# EAGLE library part PCM5102A (library texas-instruments)
2VRMS DirectPath™, 112dB Audio Stereo DAC with 32-bit, 384kHz PCM Interface The PCM510xA devices are a family of monolithic CMOS integrated circuits that include a stereo digital-to-analog converter and additional support circuitry in a small TSSOP package. The PCM510xA uses the latest generation of TI’s advanced segment-DAC architecture to achieve excellent dynamic performance and improved tolerance to clock jitter. The PCM510xA provides 2.1VRMS ground centered outputs, allowing designers to eliminate DC blocking capacitors on the output, as well as external muting circuits traditionally associated with single supply line drivers. The integrated line driver surpasses all other charge-pump based line drivers by supporting loads down to 1kΩ. By supporting loads down to 1kΩ, the PCM510xA can essentially drive up to 10 products in parallel. (LCD TV, DVDR, AV Receivers etc). The integrated PLL on the device removes the requirement for a system clock (commonly known as master clock), allowing a 3-wire I2S connection and reducing system EMI. Intelligent clock error and PowerSense under voltage protection utilizes a two level mute system for pop-free performance. Upon clock error or system power failure, the device digitally attenuates the data (or last known good data), then mutes the analog circuit. Compared with existing DAC technology, the PCM510xA family offers up to 20dB lower out-of-band noise, reducing EMI and aliasing in downstream amplifiers/ADCs. (from traditional 100kHz OBN measurements all the way to 3MHz) The PCM510xA accepts industry-standard audio data formats with 16- to 32-bit data. Sample rates up to 384kHz are supported.
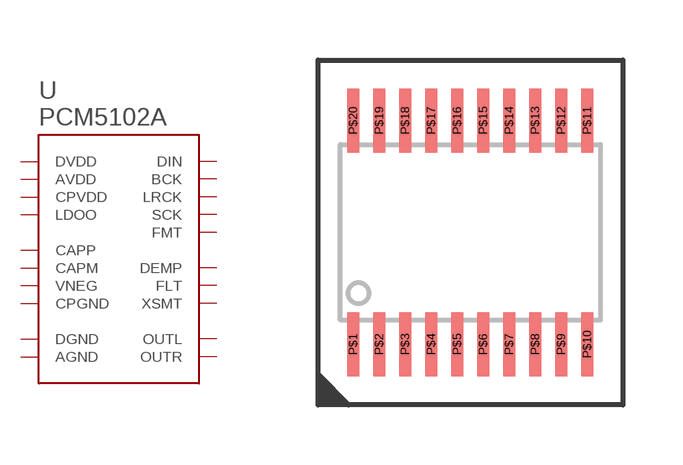
[diagram p12: symbol with the pads of R-PDSO-G20; footprint R-PDSO-G20]

Designator prefix U

## PCM5102A  [R-PDSO-G20]
P$1  CPVDD
P$2  CAPP
P$3  CPGND
P$4  CAPM
P$5  VNEG
P$6  OUTL
P$7  OUTR
P$8  AVDD
P$9  AGND
P$10  DEMP
P$11  FLT
P$12  SCK
P$13  BCK
P$14  DIN
P$15  LRCK
P$16  FMT
P$17  XSMT
P$18  LDOO
P$19  DGND
P$20  DVDD

## Footprint R-PDSO-G20 (pad centres in mm)
smd 0.3 x 1.6: P$1 -2.925,-2.8; P$2 -2.275,-2.8; P$3 -1.625,-2.8; P$4 -0.975,-2.8; P$5 -0.325,-2.8; P$6 0.325,-2.8; P$7 0.975,-2.8; P$8 1.625,-2.8; P$9 2.275,-2.8; P$10 2.925,-2.8; P$11 2.925,2.8; P$12 2.275,2.8; P$13 1.625,2.8; P$14 0.975,2.8; P$15 0.325,2.8; P$16 -0.325,2.8; P$17 -0.975,2.8; P$18 -1.625,2.8; P$19 -2.275,2.8; P$20 -2.925,2.8